# Altium footprint library MX25Lxxx45G.PcbLib: 1 footprints
Each footprint in its own frame and in the unit in brackets; x right, y up, seen from the top. Pads: shape width x height; smd on the part's side, far side on the other; paste and mask are expansions set on the pad; w line width, h text height; cw(c..) or ccw(c..) is an arc to the next point about the centre after c.
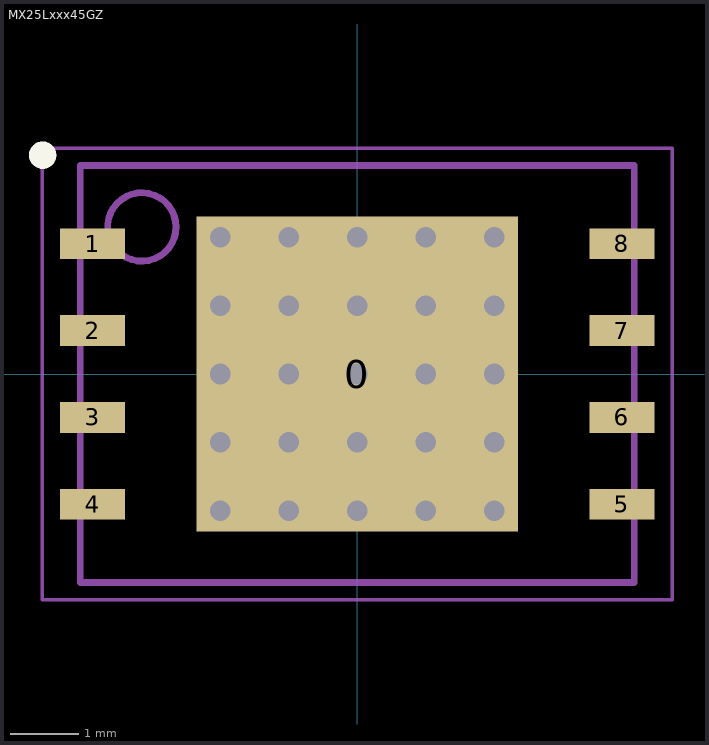
[diagram p0: the footprint, top view; thin cyan lines are the x and y axes]

## MX25Lxxx45GZ [mm] "SON127P800X80_HS-9N / SON, 8-Leads, Body 6.00x8.00mm, Pitch 1.27mm, Thermal Pad 4.60x4.70mm, IPC Medium Density"
height 0.8
pads (9):
  rect 4.7x4.6 smd paste-2.35: 0(0,0)
  rect 0.95x0.45 smd: 1(-3.87,1.905) 2(-3.87,0.635) 3(-3.87,-0.635) 4(-3.87,-1.905) 5(3.87,-1.905) 6(3.87,-0.635) 7(3.87,0.635) 8(3.87,1.905)
via 2,-2 diameter 0.6 hole 0.3
via 1,-2 diameter 0.6 hole 0.3
via 0,-2 diameter 0.6 hole 0.3
via -1,-2 diameter 0.6 hole 0.3
via -2,-2 diameter 0.6 hole 0.3
via 2,-1 diameter 0.6 hole 0.3
via 1,-1 diameter 0.6 hole 0.3
via 0,-1 diameter 0.6 hole 0.3
via -1,-1 diameter 0.6 hole 0.3
via -2,-1 diameter 0.6 hole 0.3
via 2,0 diameter 0.6 hole 0.3
via 1,0 diameter 0.6 hole 0.3
via 0,0 diameter 0.6 hole 0.3
via -1,0 diameter 0.6 hole 0.3
via -2,0 diameter 0.6 hole 0.3
via 2,1 diameter 0.6 hole 0.3
via 1,1 diameter 0.6 hole 0.3
via 0,1 diameter 0.6 hole 0.3
via -1,1 diameter 0.6 hole 0.3
via -2,1 diameter 0.6 hole 0.3
via 2,2 diameter 0.6 hole 0.3
via 1,2 diameter 0.6 hole 0.3
via 0,2 diameter 0.6 hole 0.3
via -1,2 diameter 0.6 hole 0.3
via -2,2 diameter 0.6 hole 0.3
Top Overlay:
  circle w0.2: c-4.6,3.2 r0.1
Top Paste:
  rectangle: 1.28,-2.2 2.26,-1.25
  rectangle: 1.28,-1.05 2.26,-0.1
  rectangle: 1.28,0.1 2.26,1.05
  rectangle: 1.28,1.25 2.26,2.2
  rectangle: 0.1,-2.2 1.08,-1.25
  rectangle: 0.1,-1.05 1.08,-0.1
  rectangle: 0.1,0.1 1.08,1.05
  rectangle: 0.1,1.25 1.08,2.2
  rectangle: -1.08,-2.2 -0.1,-1.25
  rectangle: -1.08,-1.05 -0.1,-0.1
  rectangle: -1.08,0.1 -0.1,1.05
  rectangle: -1.08,1.25 -0.1,2.2
  rectangle: -2.26,-2.2 -1.28,-1.25
  rectangle: -2.26,-1.05 -1.28,-0.1
  rectangle: -2.26,0.1 -1.28,1.05
  rectangle: -2.26,1.25 -1.28,2.2
Top Courtyard:
  lines w0.05: -4.605,-3.3 4.605,-3.3 4.605,3.3 -4.605,3.3 -4.605,-3.3
  lines w0.1: -0.5,0 0.5,0 ; 0,-0.5 0,0.5
Top Assembly:
  circle w0.1: c-3.15,2.15 r0.5
  lines w0.1: -4.05,-3.05 4.05,-3.05 4.05,3.05 -4.05,3.05 -4.05,-3.05
3D body: height 0.8, standoff 0.05, extent -4.05,-3.05 4.05,3.05